# Altium integrated library 1206 Package.IntLib: 1 symbol
Pins are listed as number, name and electrical type; pins without a type are passive.

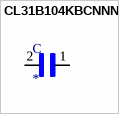
[diagram p0: symbol CL31B104KBCNNNC]

## CL31B104KBCNNNC
designator C
0.1ÂµF Â±10% 50V Ceramic Capacitor X7R 1206 _3216 Metric_; MF: Samsung Electro-Mechanics; MP: CL31B104KBCNNNC; Value: *; Price: None; Package: 1206 Samsung; SnapEDA_Link: https://www.snapeda.com/parts/CL31B104KBCNNNC/Samsung%20Electro-Mechanics/view-part/3597996/?ref=snap; Availability: Unavailable
footprint CAPC3216X180N
pins: 1, 2